# Altium footprint library TSSOP-16_ONS.PcbLib: 3 footprints
Each footprint in its own frame and in the unit in brackets; x right, y up, seen from the top. Pads: shape width x height; smd on the part's side, far side on the other; paste and mask are expansions set on the pad; w line width, h text height; cw(c..) or ccw(c..) is an arc to the next point about the centre after c.
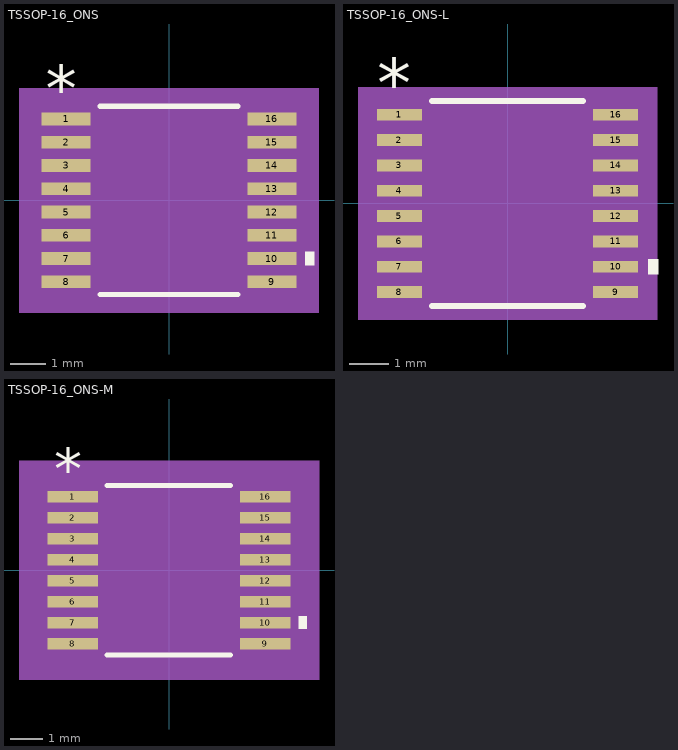
[diagram p0: the footprints below, top view; thin cyan lines are the x and y axes]

## TSSOP-16_ONS [mil]
pads (16):
  rect 53.5x14 smd paste+0 mask+0: 1(-113.25,89.57) 2(-113.25,63.98) 3(-113.25,38.39) 4(-113.25,12.8) 5(-113.25,-12.8) 6(-113.25,-38.39) 7(-113.25,-63.98) 8(-113.25,-89.57) 9(113.25,-89.57) 10(113.25,-63.98) 11(113.25,-38.39) 12(113.25,-12.8) 13(113.25,12.8) 14(113.25,38.39) 15(113.25,63.98) 16(113.25,89.57)
Top Overlay:
  region: 150,-56.48 160,-56.48 160,-71.48 150,-71.48
  lines w6: -75.39,-103.5 75.39,-103.5 ; -75.39,103.5 75.39,103.5
  text "*" at -135.75,98.57 h50
Mechanical 5:
  region: 165,-123.5 -165,-123.5 -165,123.5 165,123.5
Mechanical 13:
  lines w0: -12,98.5 ccw(c0,98.5) 12,98.5
  lines w1: -126,-95.57 -86.5,-95.57 -86.5,-83.57 -126,-83.57 -126,-95.57 ; -126,-69.98 -86.5,-69.98 -86.5,-57.98 -126,-57.98 -126,-69.98 ; -126,-44.39 -86.5,-44.39 -86.5,-32.39 -126,-32.39 -126,-44.39 ; -126,-18.8 -86.5,-18.8 -86.5,-6.8 -126,-6.8 -126,-18.8 ; -126,6.8 -86.5,6.8 -86.5,18.8 -126,18.8 -126,6.8 ; -126,32.39 -86.5,32.39 -86.5,44.39 -126,44.39 -126,32.39 ; -126,57.98 -86.5,57.98 -86.5,69.98 -126,69.98 -126,57.98 ; -126,83.57 -86.5,83.57 -86.5,95.57 -126,95.57 -126,83.57 ; -86.5,-98.5 -86.5,98.5 86.5,98.5 86.5,-98.5 -86.5,-98.5 ; 86.5,-95.57 126,-95.57 126,-83.57 86.5,-83.57 86.5,-95.57 ; 86.5,-69.98 126,-69.98 126,-57.98 86.5,-57.98 86.5,-69.98 ; 86.5,-44.39 126,-44.39 126,-32.39 86.5,-32.39 86.5,-44.39 ; 86.5,-18.8 126,-18.8 126,-6.8 86.5,-6.8 86.5,-18.8 ; 86.5,6.8 126,6.8 126,18.8 86.5,18.8 86.5,6.8 ; 86.5,32.39 126,32.39 126,44.39 86.5,44.39 86.5,32.39 ; 86.5,57.98 126,57.98 126,69.98 86.5,69.98 86.5,57.98 ; 86.5,83.57 126,83.57 126,95.57 86.5,95.57 86.5,83.57
  text "*" at -84,45.5 h50
Mechanical 15:
  region: -96.5,-106.57 -150,-106.57 -150,106.57 -96.5,106.57 -96.5,108.5 96.5,108.5 96.5,106.57 150,106.57 150,-106.57 96.5,-106.57 96.5,-108.5 -96.5,-108.5
  lines w6: -150,-106.57 -96.5,-106.57 -96.5,-108.5 96.5,-108.5 96.5,-106.57 150,-106.57 150,106.57 96.5,106.57 96.5,108.5 -96.5,108.5 -96.5,106.57 -150,106.57 -150,-106.57
3D body "TSSOP-16_ONS.step": height 47.09, standoff 0, extent -125.98,-98.5 125.98,98.5

## TSSOP-16_ONS-L [mil]
pads (16):
  rect 45.5x12 smd paste+0 mask+0: 1(-109.25,89.57) 2(-109.25,63.98) 3(-109.25,38.39) 4(-109.25,12.8) 5(-109.25,-12.8) 6(-109.25,-38.39) 7(-109.25,-63.98) 8(-109.25,-89.57) 9(109.25,-89.57) 10(109.25,-63.98) 11(109.25,-38.39) 12(109.25,-12.8) 13(109.25,12.8) 14(109.25,38.39) 15(109.25,63.98) 16(109.25,89.57)
Top Overlay:
  region: 142,-56.48 152,-56.48 152,-71.48 142,-71.48
  lines w6: -76.08,-103.5 76.08,-103.5 ; -76.08,103.5 76.08,103.5
  text "*" at -131.75,96.57 h50
Mechanical 5:
  region: 151,-117.5 -151,-117.5 -151,117.5 151,117.5
Mechanical 13:
  lines w0: -12,98.5 ccw(c0,98.5) 12,98.5
  lines w1: -126,-95.57 -126,-83.57 -86.5,-83.57 -86.5,-95.57 -126,-95.57 ; -126,-69.98 -126,-57.98 -86.5,-57.98 -86.5,-69.98 -126,-69.98 ; -126,-44.39 -126,-32.39 -86.5,-32.39 -86.5,-44.39 -126,-44.39 ; -126,-18.8 -126,-6.8 -86.5,-6.8 -86.5,-18.8 -126,-18.8 ; -126,6.8 -126,18.8 -86.5,18.8 -86.5,6.8 -126,6.8 ; -126,32.39 -126,44.39 -86.5,44.39 -86.5,32.39 -126,32.39 ; -126,57.98 -126,69.98 -86.5,69.98 -86.5,57.98 -126,57.98 ; -126,83.57 -126,95.57 -86.5,95.57 -86.5,83.57 -126,83.57 ; -86.5,-98.5 86.5,-98.5 86.5,98.5 -86.5,98.5 -86.5,-98.5 ; 86.5,-95.57 86.5,-83.57 126,-83.57 126,-95.57 86.5,-95.57 ; 86.5,-69.98 86.5,-57.98 126,-57.98 126,-69.98 86.5,-69.98 ; 86.5,-44.39 86.5,-32.39 126,-32.39 126,-44.39 86.5,-44.39 ; 86.5,-18.8 86.5,-6.8 126,-6.8 126,-18.8 86.5,-18.8 ; 86.5,6.8 86.5,18.8 126,18.8 126,6.8 86.5,6.8 ; 86.5,32.39 86.5,44.39 126,44.39 126,32.39 86.5,32.39 ; 86.5,57.98 86.5,69.98 126,69.98 126,57.98 86.5,57.98 ; 86.5,83.57 86.5,95.57 126,95.57 126,83.57 86.5,83.57
  text "*" at -84,45.5 h50
Mechanical 15:
  region: -90.5,-99.57 -136,-99.57 -136,99.57 -90.5,99.57 -90.5,102.5 90.5,102.5 90.5,99.57 136,99.57 136,-99.57 90.5,-99.57 90.5,-102.5 -90.5,-102.5
  lines w6: -136,-99.57 -136,99.57 -90.5,99.57 -90.5,102.5 90.5,102.5 90.5,99.57 136,99.57 136,-99.57 90.5,-99.57 90.5,-102.5 -90.5,-102.5 -90.5,-99.57 -136,-99.57
3D body "TSSOP-16_ONS.step": height 47.09, standoff 0, extent -125.98,-98.5 125.98,98.5

## TSSOP-16_ONS-M [mil]
pads (16):
  rect 61.5x14 smd paste+0 mask+0: 1(-117.25,89.57) 2(-117.25,63.98) 3(-117.25,38.39) 4(-117.25,12.8) 5(-117.25,-12.8) 6(-117.25,-38.39) 7(-117.25,-63.98) 8(-117.25,-89.57) 9(117.25,-89.57) 10(117.25,-63.98) 11(117.25,-38.39) 12(117.25,-12.8) 13(117.25,12.8) 14(117.25,38.39) 15(117.25,63.98) 16(117.25,89.57)
Top Overlay:
  region: 158,-56.48 168,-56.48 168,-71.48 158,-71.48
  lines w6: -75.39,-103.5 75.39,-103.5 ; -75.39,103.5 75.39,103.5
  text "*" at -139.75,98.57 h50
Mechanical 5:
  region: 183,-133.5 -183,-133.5 -183,133.5 183,133.5
Mechanical 13:
  lines w0: -12,98.5 ccw(c0,98.5) 12,98.5
  lines w1: -126,-95.57 -126,-83.57 -86.5,-83.57 -86.5,-95.57 -126,-95.57 ; -126,-69.98 -126,-57.98 -86.5,-57.98 -86.5,-69.98 -126,-69.98 ; -126,-44.39 -126,-32.39 -86.5,-32.39 -86.5,-44.39 -126,-44.39 ; -126,-18.8 -126,-6.8 -86.5,-6.8 -86.5,-18.8 -126,-18.8 ; -126,6.8 -126,18.8 -86.5,18.8 -86.5,6.8 -126,6.8 ; -126,32.39 -126,44.39 -86.5,44.39 -86.5,32.39 -126,32.39 ; -126,57.98 -126,69.98 -86.5,69.98 -86.5,57.98 -126,57.98 ; -126,83.57 -126,95.57 -86.5,95.57 -86.5,83.57 -126,83.57 ; -86.5,-98.5 86.5,-98.5 86.5,98.5 -86.5,98.5 -86.5,-98.5 ; 86.5,-95.57 86.5,-83.57 126,-83.57 126,-95.57 86.5,-95.57 ; 86.5,-69.98 86.5,-57.98 126,-57.98 126,-69.98 86.5,-69.98 ; 86.5,-44.39 86.5,-32.39 126,-32.39 126,-44.39 86.5,-44.39 ; 86.5,-18.8 86.5,-6.8 126,-6.8 126,-18.8 86.5,-18.8 ; 86.5,6.8 86.5,18.8 126,18.8 126,6.8 86.5,6.8 ; 86.5,32.39 86.5,44.39 126,44.39 126,32.39 86.5,32.39 ; 86.5,57.98 86.5,69.98 126,69.98 126,57.98 86.5,57.98 ; 86.5,83.57 86.5,95.57 126,95.57 126,83.57 86.5,83.57
  text "*" at -84,45.5 h50
Mechanical 15:
  region: -106.5,-116.57 -168,-116.57 -168,116.57 -106.5,116.57 -106.5,118.5 106.5,118.5 106.5,116.57 168,116.57 168,-116.57 106.5,-116.57 106.5,-118.5 -106.5,-118.5
  lines w6: -168,-116.57 -168,116.57 -106.5,116.57 -106.5,118.5 106.5,118.5 106.5,116.57 168,116.57 168,-116.57 106.5,-116.57 106.5,-118.5 -106.5,-118.5 -106.5,-116.57 -168,-116.57
3D body "TSSOP-16_ONS.step": height 47.09, standoff 0, extent -125.98,-98.5 125.98,98.5